# EAGLE library part 6120XX235221_612020235221 (library con-wurth)
WR-BHD 2.54 mm Male Angled Box Header High Temperature KIND PROPERTIES: Pitch 2.54 mm Gender:Male MATERIAL PROPERTIES: Insulator Material:PA6T Insulator Flammability Rating UL94 V-0 Insulator Color:Black Contact Material :Copper Alloy Contact Plating :Gold Contact Type: Stamped GENERAL INFORMATION: Operating Temperature:-40 °C up to +125 °C Compliance:RoHS Working Voltage: 250 V (AC) Withstanding Voltage:500 V (AC) Contact Resistance: 20 mΩ Insulation Resistance:1000 MΩ PACKAGING PROPERTIES Packaging :Tray <https://www.we-online.de/katalog/media/o32907v209%20Family_WR-BHD_6120xx235221.jpg> Details see: https://www.we-online.de/katalog/en/em/BHD_2_54_MALE_ANGLED_BOX_HEADER_HIGH_TEMPERATURE_6120XX235221 Updated by Yingchun,Shan 2019-10-30 2019 (C) Würth Elektronik
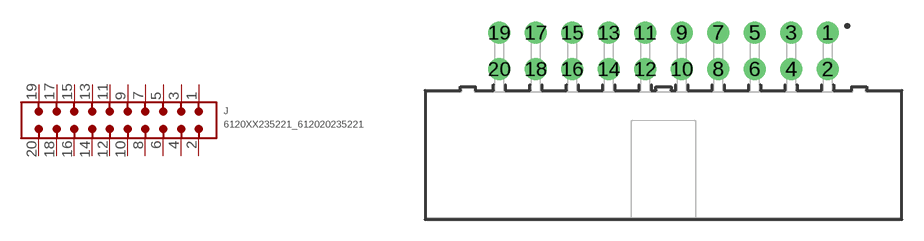
[diagram p19: symbol with the pads of 612020235221; footprint 612020235221]

Designator prefix J

## 6120XX235221_612020235221 (CONTACT-RESISTANCE: 20mOhm; DATASHEET-URL: https://www.we-online.com/redexpert/spec/612020235221?ae; GENDER: Male; IR: 3A; LENGTH: 33mm; MOUNT: THT; PACKAGING: Tray; PART-NUMBER: 612020235221; PINS: 20; PITCH: 2.54mm; TYPE: Angled; VALUE: 612020235221; WORKING-VOLTAGE: 250V(AC))  [612020235221]
1  1  pas
2  2  pas
3  3  pas
4  4  pas
5  5  pas
6  6  pas
7  7  pas
8  8  pas
9  9  pas
10  10  pas
11  11  pas
12  12  pas
13  13  pas
14  14  pas
15  15  pas
16  16  pas
17  17  pas
18  18  pas
19  19  pas
20  20  pas

## Footprint 612020235221 (pad centres in mm)
WR-BHD 2.54 mm Male Angled Box Header High Temperature, 20 Pins
drill 1.02: 1 11.43,8.54; 2 11.43,6; 3 8.89,8.54; 4 8.89,6; 5 6.35,8.54; 6 6.35,6; 7 3.81,8.54; 8 3.81,6; 9 1.27,8.54; 10 1.27,6; 11 -1.27,8.54; 12 -1.27,6; 13 -3.81,8.54; 14 -3.81,6; 15 -6.35,8.54; 16 -6.35,6; 17 -8.89,8.54; 18 -8.89,6; 19 -11.43,8.54; 20 -11.43,6